# Altium schematic symbol library melexis.SCHLIB: 1 symbol
Pins are listed as number, name and electrical type; pins without a type are passive.

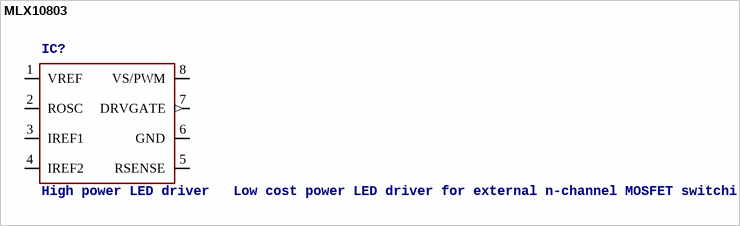
[diagram p0: symbol MLX10803]

## MLX10803
designator IC?, comment High power LED driver   Low cost power LED driver for external n-channel MOSFET switching transistor Source: http://www.mlxsemi.com/prodfiles/0004840_MLX10803rev24.pdf
OC_FARNELL: unknown; OC_NEWARK: unknown
footprint SO-08
pins: 1 VREF, 2 ROSC, 3 IREF1, 4 IREF2, 5 RSENSE, 6 GND (power), 7 DRVGATE (out), 8 VS/PWM